# Altium schematic symbol library Power Management DC-DC Conversion.SchLib: 186 symbols (part 3 of 4)
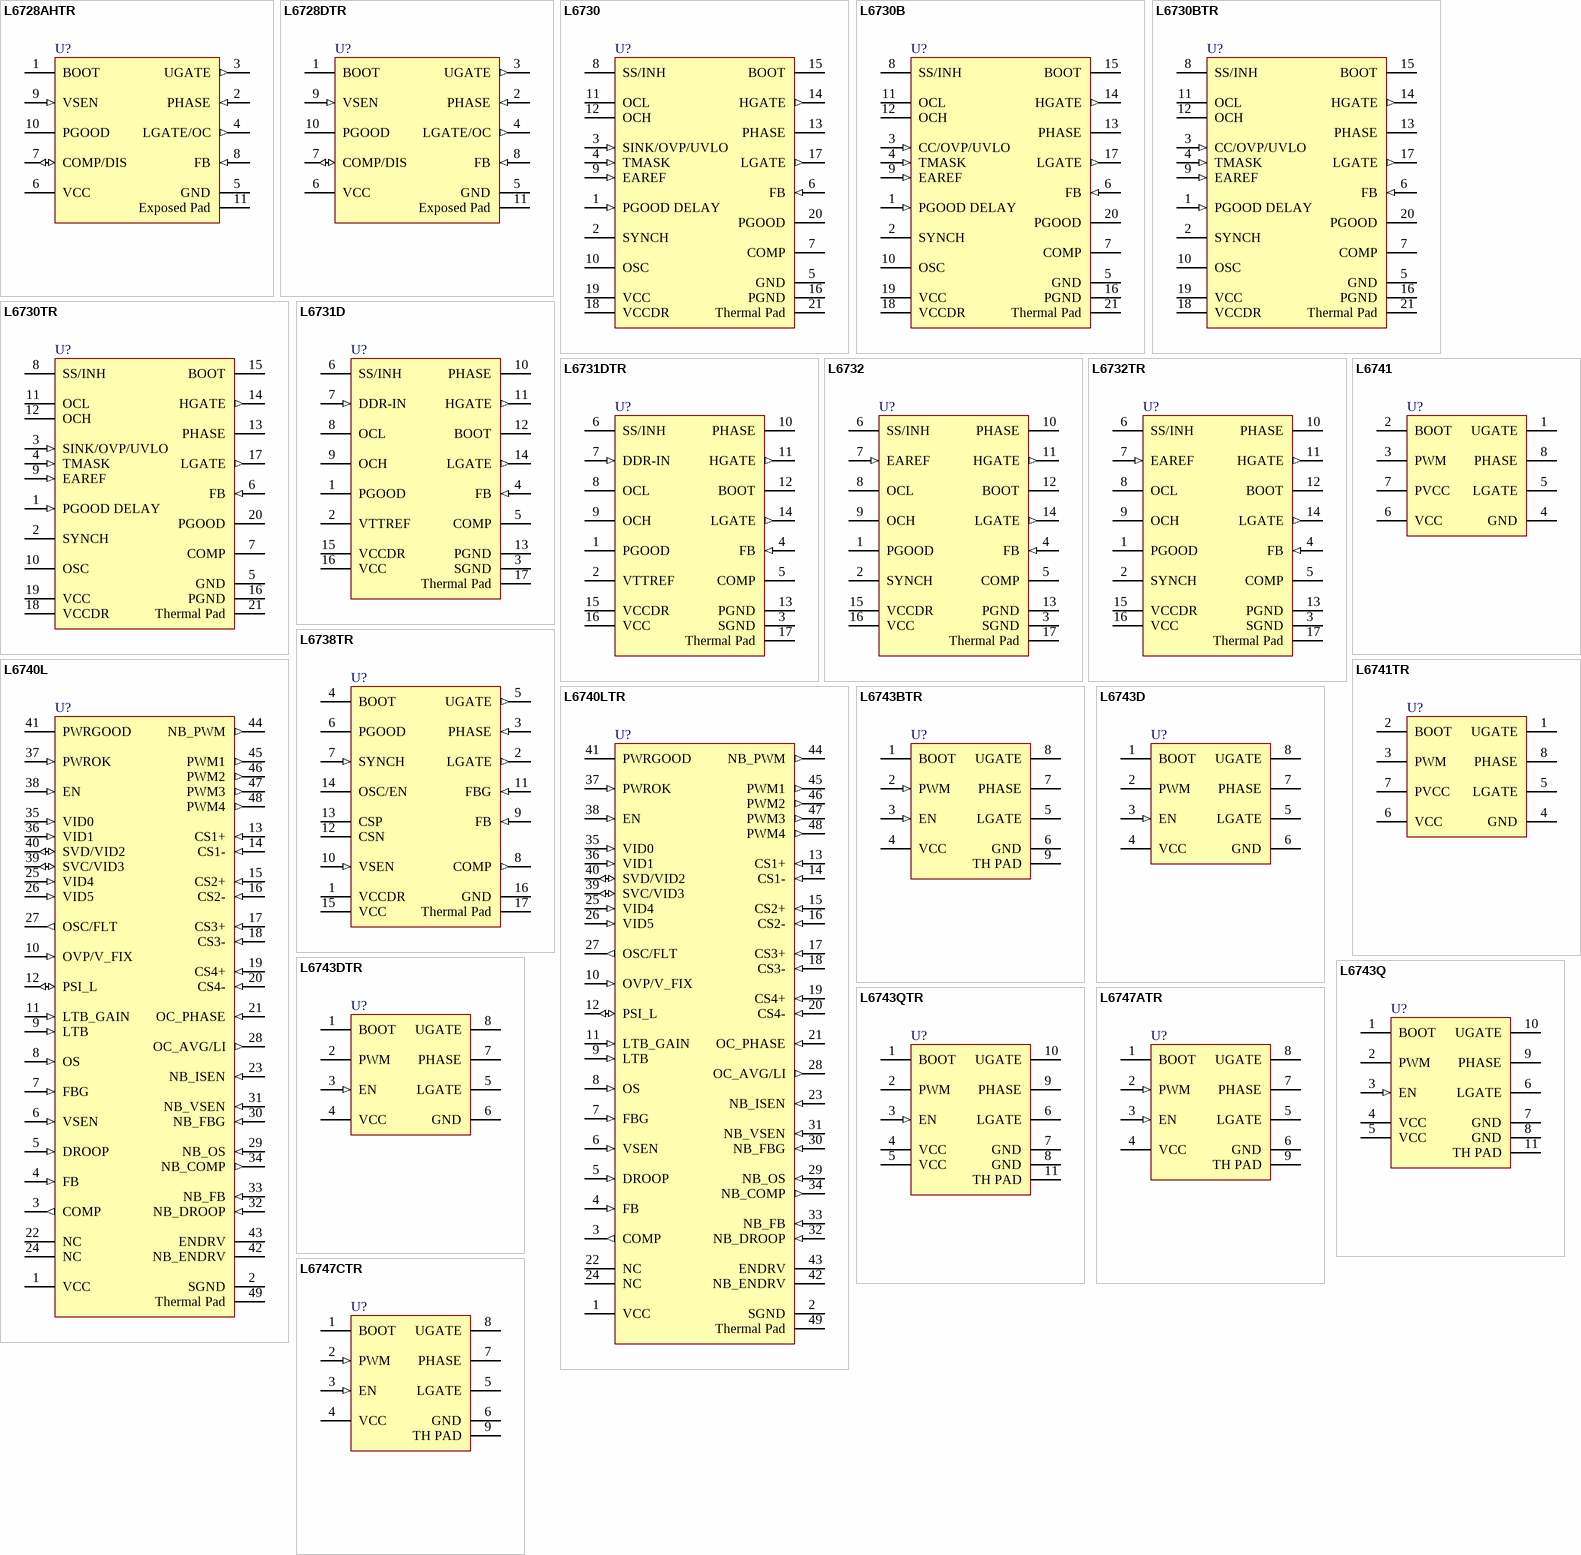
[diagram p9: symbols L6728AHTR to L6747CTR]

## L6747CTR
designator U?
High current MOSFET driver, 8-Pin VFDFPN, Tape and Reel; DatasheetVersion: Apr-2010; PackageVersion: 2008; PackageReference: VFDFPN8; PackageDescription: 8-Pin VFDFPN, 3 x 3 x 1 mm Body, 0.5 mm Pitch, Exposed Pad; ComponentLink1Description: Manufacturer URL; ComponentLink1URL: http://www.st.com; ComponentLink2Description: Datasheet; ComponentLink2URL: http://www.st.com/internet/com/TECHNICAL_RESOURCES/TECHNICAL_LITERATURE/DATASHEET/CD00265205.pdf
footprint VFDFPN8_N (SON, 8-Leads, Body 3x3mm, Pitch 0.5mm, Thermal Pad 2.45x1.6mm, IPC Medium Density)
footprint VFDFPN8_L (SON, 8-Leads, Body 3x3mm, Pitch 0.5mm, Thermal Pad 2.45x1.6mm, IPC High Density)
footprint VFDFPN8_M (SON, 8-Leads, Body 3x3mm, Pitch 0.5mm, Thermal Pad 2.45x1.6mm, IPC Low Density)
pins: 1 BOOT (power), 2 PWM (in), 3 EN (in), 4 VCC (power), 5 LGATE (hiz), 6 GND (power), 7 PHASE, 8 UGATE (hiz), 9 TH PAD (power)

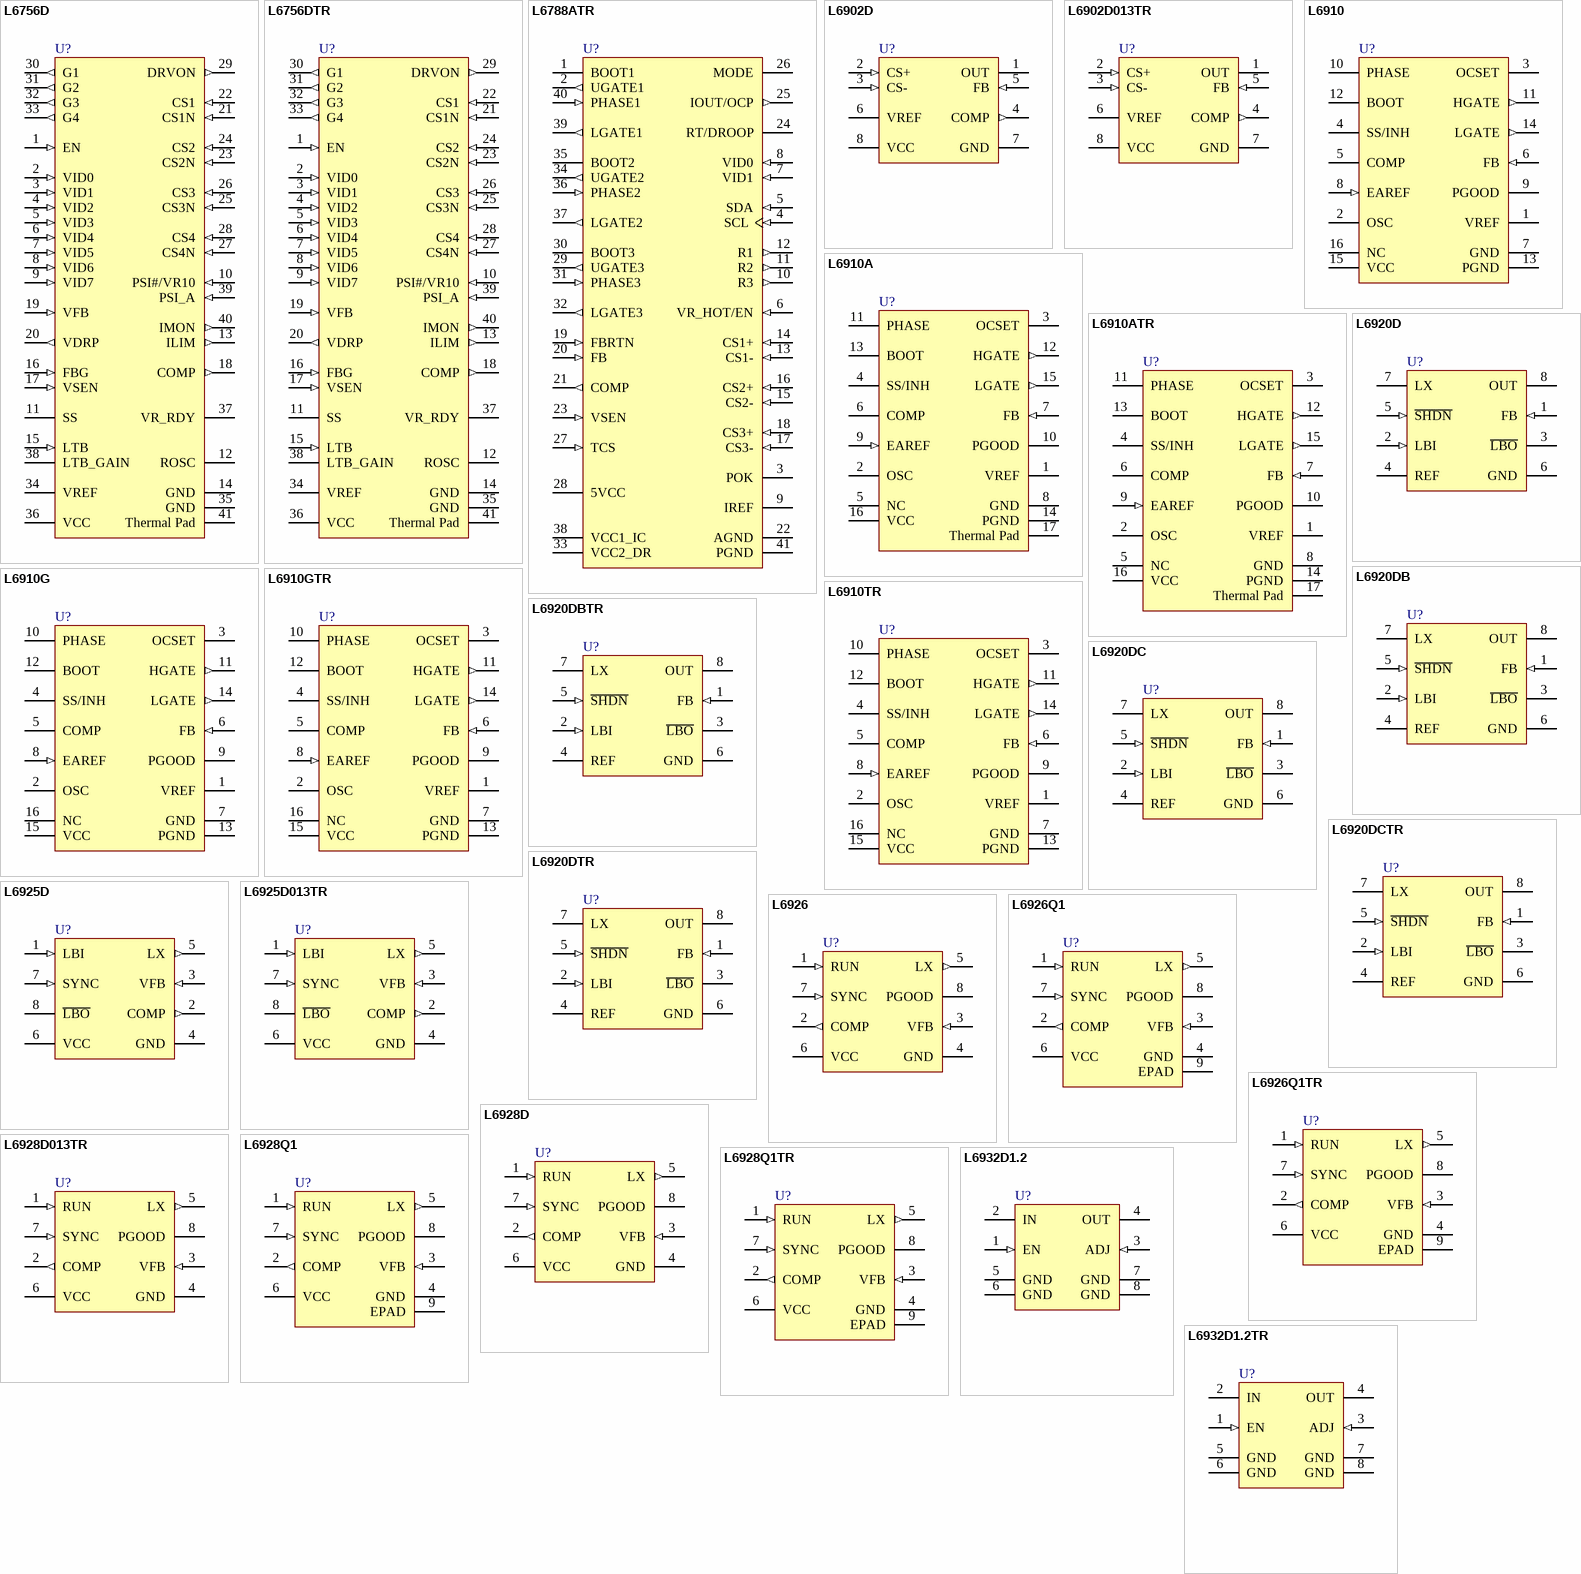
[diagram p4: symbols L6756D to L6932D1.2TR]

## L6756D
designator U?
2/3/4 phase buck controller for VR10, VR11.1 and AM2 processor applications, 40-Pin VFQFPN, Tube; DatasheetVersion: Oct-2008; PackageVersion: 2008; PackageReference: VFQFPN-40; PackageDescription: 40-Pin Very Fine Quad Flat Package No-Lead, 6 x 6 x 1 mm Body, 0.5 mm Pitch, Exposed Pad; ComponentLink1Description: Manufacturer URL; ComponentLink1URL: http://www.st.com; ComponentLink2Description: Datasheet; ComponentLink2URL: http://www.st.com/internet/com/TECHNICAL_RESOURCES/TECHNICAL_LITERATURE/DATASHEET/CD00211387.pdf
footprint VFQFPN-40_N (QFN, 40-Leads, Body 6x6mm, Pitch 0.5mm, Thermal Pad 4.1x4.1mm, IPC Medium Density)
footprint VFQFPN-40_L (QFN, 40-Leads, Body 6x6mm, Pitch 0.5mm, Thermal Pad 4.1x4.1mm, IPC High Density)
footprint VFQFPN-40_M (QFN, 40-Leads, Body 6x6mm, Pitch 0.5mm, Thermal Pad 4.1x4.1mm, IPC Low Density)
pins: 1 EN (in), 2 VID0 (in), 3 VID1 (in), 4 VID2 (in), 5 VID3 (in), 6 VID4 (in), 7 VID5 (in), 8 VID6 (in), 9 VID7 (in), 10 PSI#/VR10 (in), 11 SS, 12 ROSC, 13 ILIM (out), 14 GND (power), 15 LTB (in), 16 FBG (in), 17 VSEN (in), 18 COMP (out), 19 VFB (in), 20 VDRP (out), 21 CS1N (in), 22 CS1 (in), 23 CS2N (in), 24 CS2 (in), 25 CS3N (in), 26 CS3 (in), 27 CS4N (in), 28 CS4 (in), 29 DRVON (out), 30 G1 (out), 31 G2 (out), 32 G3 (out), 33 G4 (out), 34 VREF (power), 35 GND (power), 36 VCC (power), 37 VR_RDY (oc), 38 LTB_GAIN, 39 PSI_A (in), 40 IMON (out), 41 Thermal Pad (power)

## L6756DTR
designator U?
2/3/4 phase buck controller for VR10, VR11.1 and AM2 processor applications, 40-Pin VFQFPN, Tape and Reel; DatasheetVersion: Oct-2008; PackageVersion: 2008; PackageReference: VFQFPN-40; PackageDescription: 40-Pin Very Fine Quad Flat Package No-Lead, 6 x 6 x 1 mm Body, 0.5 mm Pitch, Exposed Pad; ComponentLink1Description: Manufacturer URL; ComponentLink1URL: http://www.st.com; ComponentLink2Description: Datasheet; ComponentLink2URL: http://www.st.com/internet/com/TECHNICAL_RESOURCES/TECHNICAL_LITERATURE/DATASHEET/CD00211387.pdf
footprint VFQFPN-40_N (QFN, 40-Leads, Body 6x6mm, Pitch 0.5mm, Thermal Pad 4.1x4.1mm, IPC Medium Density)
footprint VFQFPN-40_L (QFN, 40-Leads, Body 6x6mm, Pitch 0.5mm, Thermal Pad 4.1x4.1mm, IPC High Density)
footprint VFQFPN-40_M (QFN, 40-Leads, Body 6x6mm, Pitch 0.5mm, Thermal Pad 4.1x4.1mm, IPC Low Density)
pins: 1 EN (in), 2 VID0 (in), 3 VID1 (in), 4 VID2 (in), 5 VID3 (in), 6 VID4 (in), 7 VID5 (in), 8 VID6 (in), 9 VID7 (in), 10 PSI#/VR10 (in), 11 SS, 12 ROSC, 13 ILIM (out), 14 GND (power), 15 LTB (in), 16 FBG (in), 17 VSEN (in), 18 COMP (out), 19 VFB (in), 20 VDRP (out), 21 CS1N (in), 22 CS1 (in), 23 CS2N (in), 24 CS2 (in), 25 CS3N (in), 26 CS3 (in), 27 CS4N (in), 28 CS4 (in), 29 DRVON (out), 30 G1 (out), 31 G2 (out), 32 G3 (out), 33 G4 (out), 34 VREF (power), 35 GND (power), 36 VCC (power), 37 VR_RDY (oc), 38 LTB_GAIN, 39 PSI_A (in), 40 IMON (out), 41 Thermal Pad (power)

## L6788ATR
designator U?
3-phase controller with embedded drivers for the next GPU generation, 40-Pin VPQFN, Tape and Reel; DatasheetVersion: Jul-2009; PackageVersion: 2008; PackageReference: VFQFPN-40; PackageDescription: 40-Pin Very Fine Quad Flat Package No-Lead, 6 x 6 x 1 mm Body, 0.5 mm Pitch, Exposed Pad; ComponentLink1Description: Manufacturer URL; ComponentLink1URL: http://www.st.com; ComponentLink2Description: Datasheet; ComponentLink2URL: http://www.st.com/internet/com/TECHNICAL_RESOURCES/TECHNICAL_LITERATURE/DATASHEET/CD00223686.pdf
footprint VFQFPN-40_N (QFN, 40-Leads, Body 6x6mm, Pitch 0.5mm, Thermal Pad 4.1x4.1mm, IPC Medium Density)
footprint VFQFPN-40_L (QFN, 40-Leads, Body 6x6mm, Pitch 0.5mm, Thermal Pad 4.1x4.1mm, IPC High Density)
footprint VFQFPN-40_M (QFN, 40-Leads, Body 6x6mm, Pitch 0.5mm, Thermal Pad 4.1x4.1mm, IPC Low Density)
pins: 1 BOOT1 (power), 2 UGATE1 (out), 3 POK (oc), 4 SCL (in), 5 SDA (in), 6 VR_HOT/EN (in), 7 VID1 (in), 8 VID0 (in), 9 IREF, 10 R3 (out), 11 R2 (out), 12 R1 (out), 13 CS1- (in), 14 CS1+ (in), 15 CS2- (in), 16 CS2+ (in), 17 CS3- (in), 18 CS3+ (in), 19 FBRTN (in), 20 FB (in), 21 COMP (out), 22 AGND (power), 23 VSEN (in), 24 RT/DROOP, 25 IOUT/OCP (out), 26 MODE, 27 TCS (in), 28 5VCC (power), 29 UGATE3 (out), 30 BOOT3 (power), 31 PHASE3 (in), 32 LGATE3 (out), 33 VCC2_DR (power), 34 UGATE2 (out), 35 BOOT2 (power), 36 PHASE2 (in), 37 LGATE2 (out), 38 VCC1_IC (power), 39 LGATE1 (out), 40 PHASE1 (in), 41 PGND (power)

## L6902D
designator U?
1A, switching regulator with adjustable current limit, 8-Pin SO, Tube; DatasheetVersion: Nov-2010; PackageVersion: Dec-2002; PackageReference: SO8; PackageDescription: 8-Pin Small Outline Integrated Circuit 1.27 mm Pitch; Code_JEDEC: MS-012-AA; Code_IPC: SOIC127P600-8; ComponentLink1Description: Manufacturer URL; ComponentLink1URL: http://www.st.com; ComponentLink2Description: Datasheet; ComponentLink2URL: http://www.st.com/internet/com/TECHNICAL_RESOURCES/TECHNICAL_LITERATURE/DATASHEET/CD00002179.pdf; ComponentLink3Description: Package Specification; ComponentLink3URL: http://www.st.com/internet/com/TECHNICAL_RESOURCES/TECHNICAL_LITERATURE/PACKAGE_INFORMATION/CD00004680.pdf
footprint SO8_N (SOIC, 8-Leads, Body 4.9x3.9mm, Pitch 1.27mm, IPC Medium Density)
footprint SO8_L (SOIC, 8-Leads, Body 4.9x3.9mm, Pitch 1.27mm, IPC High Density)
footprint SO8_M (SOIC, 8-Leads, Body 4.9x3.9mm, Pitch 1.27mm, IPC Low Density)
pins: 1 OUT (power), 2 CS+ (in), 3 CS- (in), 4 COMP (out), 5 FB (in), 6 VREF (power), 7 GND (power), 8 VCC (power)

## L6902D013TR
designator U?
1A, switching regulator with adjustable current limit, 8-Pin SO, Tape and Reel; DatasheetVersion: Nov-2010; PackageVersion: Dec-2002; PackageReference: SO8; PackageDescription: 8-Pin Small Outline Integrated Circuit 1.27 mm Pitch; Code_JEDEC: MS-012-AA; Code_IPC: SOIC127P600-8; ComponentLink1Description: Manufacturer URL; ComponentLink1URL: http://www.st.com; ComponentLink2Description: Datasheet; ComponentLink2URL: http://www.st.com/internet/com/TECHNICAL_RESOURCES/TECHNICAL_LITERATURE/DATASHEET/CD00002179.pdf; ComponentLink3Description: Package Specification; ComponentLink3URL: http://www.st.com/internet/com/TECHNICAL_RESOURCES/TECHNICAL_LITERATURE/PACKAGE_INFORMATION/CD00004680.pdf
footprint SO8_N (SOIC, 8-Leads, Body 4.9x3.9mm, Pitch 1.27mm, IPC Medium Density)
footprint SO8_L (SOIC, 8-Leads, Body 4.9x3.9mm, Pitch 1.27mm, IPC High Density)
footprint SO8_M (SOIC, 8-Leads, Body 4.9x3.9mm, Pitch 1.27mm, IPC Low Density)
pins: 1 OUT (power), 2 CS+ (in), 3 CS- (in), 4 COMP (out), 5 FB (in), 6 VREF (power), 7 GND (power), 8 VCC (power)

## L6910
designator U?
1.3A, Adjustable step-down controller with synchronous rectification, 16-Pin SO; DatasheetVersion: May-2005; PackageVersion: ver2.0, 2003; PackageReference: SO16; PackageDescription: 16-Pin Small Outline Integrated Circuit 1.27 mm Pitch; Code_IPC: SOIC127P600-16; ComponentLink1Description: Manufacturer URL; ComponentLink1URL: http://www.st.com; ComponentLink2Description: Datasheet; ComponentLink2URL: http://www.st.com/internet/com/TECHNICAL_RESOURCES/TECHNICAL_LITERATURE/DATASHEET/CD00002524.pdf; ComponentLink3Description: Package Specification; ComponentLink3URL: http://www.st.com/internet/com/TECHNICAL_RESOURCES/TECHNICAL_LITERATURE/PACKAGE_INFORMATION/CD00004640.pdf
footprint SO16_N (SOIC, 16-Leads, Body 9.9x3.9mm, Pitch 1.27mm, IPC Medium Density)
footprint SO16_L (SOIC, 16-Leads, Body 9.9x3.9mm, Pitch 1.27mm, IPC High Density)
footprint SO16_M (SOIC, 16-Leads, Body 9.9x3.9mm, Pitch 1.27mm, IPC Low Density)
pins: 1 VREF (power), 2 OSC, 3 OCSET, 4 SS/INH, 5 COMP, 6 FB (in), 7 GND (power), 8 EAREF (in), 9 PGOOD (oc), 10 PHASE, 11 HGATE (out), 12 BOOT, 13 PGND (power), 14 LGATE (out), 15 VCC (power), 16 NC

## L6910A
designator U?
1.3A, Adjustable step-down controller with synchronous rectification, 16-Pin HTSSOP; DatasheetVersion: May-2005; PackageVersion: 2008; PackageReference: HTSSOP16; PackageDescription: 16-Pin Thin Small Outline Package 5 x 4.4 mm Body ,0.65 mm Pitch, 3 x 3 mm Exposed Pad; ComponentLink1Description: Manufacturer URL; ComponentLink1URL: http://www.st.com; ComponentLink2Description: Datasheet; ComponentLink2URL: http://www.st.com/internet/com/TECHNICAL_RESOURCES/TECHNICAL_LITERATURE/DATASHEET/CD00002524.pdf
footprint HTSSOP16_N (TSOP, 16-Leads, Body 5x4.4mm, Pitch 0.65mm, Thermal Pad 3x3mm, IPC Medium Density)
footprint HTSSOP16_L (TSOP, 16-Leads, Body 5x4.4mm, Pitch 0.65mm, Thermal Pad 3x3mm, IPC High Density)
footprint HTSSOP16_M (TSOP, 16-Leads, Body 5x4.4mm, Pitch 0.65mm, Thermal Pad 3x3mm, IPC Low Density)
pins: 1 VREF (power), 2 OSC, 3 OCSET, 4 SS/INH, 5 NC, 6 COMP, 7 FB (in), 8 GND (power), 9 EAREF (in), 10 PGOOD (oc), 11 PHASE, 12 HGATE (out), 13 BOOT, 14 PGND (power), 15 LGATE (out), 16 VCC (power), 17 Thermal Pad

## L6910ATR
designator U?
1.3A, Adjustable step-down controller with synchronous rectification, 16-Pin HTSSOP, Tape and Reel; DatasheetVersion: May-2005; PackageVersion: 2008; PackageReference: HTSSOP16; PackageDescription: 16-Pin Thin Small Outline Package 5 x 4.4 mm Body ,0.65 mm Pitch, 3 x 3 mm Exposed Pad; ComponentLink1Description: Manufacturer URL; ComponentLink1URL: http://www.st.com; ComponentLink2Description: Datasheet; ComponentLink2URL: http://www.st.com/internet/com/TECHNICAL_RESOURCES/TECHNICAL_LITERATURE/DATASHEET/CD00002524.pdf
footprint HTSSOP16_N (TSOP, 16-Leads, Body 5x4.4mm, Pitch 0.65mm, Thermal Pad 3x3mm, IPC Medium Density)
footprint HTSSOP16_L (TSOP, 16-Leads, Body 5x4.4mm, Pitch 0.65mm, Thermal Pad 3x3mm, IPC High Density)
footprint HTSSOP16_M (TSOP, 16-Leads, Body 5x4.4mm, Pitch 0.65mm, Thermal Pad 3x3mm, IPC Low Density)
pins: 1 VREF (power), 2 OSC, 3 OCSET, 4 SS/INH, 5 NC, 6 COMP, 7 FB (in), 8 GND (power), 9 EAREF (in), 10 PGOOD (oc), 11 PHASE, 12 HGATE (out), 13 BOOT, 14 PGND (power), 15 LGATE (out), 16 VCC (power), 17 Thermal Pad

## L6910G
designator U?
1.3A, Adjustable step-down controller with synchronous rectification, 16-Pin SO; DatasheetVersion: May-2005; PackageVersion: ver2.0, 2003; PackageReference: SO16; PackageDescription: 16-Pin Small Outline Integrated Circuit 1.27 mm Pitch; Code_IPC: SOIC127P600-16; ComponentLink1Description: Manufacturer URL; ComponentLink1URL: http://www.st.com; ComponentLink2Description: Datasheet; ComponentLink2URL: http://www.st.com/internet/com/TECHNICAL_RESOURCES/TECHNICAL_LITERATURE/DATASHEET/CD00055650.pdf; ComponentLink3Description: Package Specification; ComponentLink3URL: http://www.st.com/internet/com/TECHNICAL_RESOURCES/TECHNICAL_LITERATURE/PACKAGE_INFORMATION/CD00004640.pdf
footprint SO16_N (SOIC, 16-Leads, Body 9.9x3.9mm, Pitch 1.27mm, IPC Medium Density)
footprint SO16_L (SOIC, 16-Leads, Body 9.9x3.9mm, Pitch 1.27mm, IPC High Density)
footprint SO16_M (SOIC, 16-Leads, Body 9.9x3.9mm, Pitch 1.27mm, IPC Low Density)
pins: 1 VREF (power), 2 OSC, 3 OCSET, 4 SS/INH, 5 COMP, 6 FB (in), 7 GND (power), 8 EAREF (in), 9 PGOOD (oc), 10 PHASE, 11 HGATE (out), 12 BOOT, 13 PGND (power), 14 LGATE (out), 15 VCC (power), 16 NC

## L6910GTR
designator U?
1.3A, Adjustable step-down controller with synchronous rectification, 16-Pin SO, Tape and Reel; DatasheetVersion: May-2005; PackageVersion: ver2.0, 2003; PackageReference: SO16; PackageDescription: 16-Pin Small Outline Integrated Circuit 1.27 mm Pitch; Code_IPC: SOIC127P600-16; ComponentLink1Description: Manufacturer URL; ComponentLink1URL: http://www.st.com; ComponentLink2Description: Datasheet; ComponentLink2URL: http://www.st.com/internet/com/TECHNICAL_RESOURCES/TECHNICAL_LITERATURE/DATASHEET/CD00055650.pdf; ComponentLink3Description: Package Specification; ComponentLink3URL: http://www.st.com/internet/com/TECHNICAL_RESOURCES/TECHNICAL_LITERATURE/PACKAGE_INFORMATION/CD00004640.pdf
footprint SO16_N (SOIC, 16-Leads, Body 9.9x3.9mm, Pitch 1.27mm, IPC Medium Density)
footprint SO16_L (SOIC, 16-Leads, Body 9.9x3.9mm, Pitch 1.27mm, IPC High Density)
footprint SO16_M (SOIC, 16-Leads, Body 9.9x3.9mm, Pitch 1.27mm, IPC Low Density)
pins: 1 VREF (power), 2 OSC, 3 OCSET, 4 SS/INH, 5 COMP, 6 FB (in), 7 GND (power), 8 EAREF (in), 9 PGOOD (oc), 10 PHASE, 11 HGATE (out), 12 BOOT, 13 PGND (power), 14 LGATE (out), 15 VCC (power), 16 NC

## L6910TR
designator U?
1.3A, Adjustable step-down controller with synchronous rectification, 16-Pin SO, Tape and Reel; DatasheetVersion: May-2005; PackageVersion: ver2.0, 2003; PackageReference: SO16; PackageDescription: 16-Pin Small Outline Integrated Circuit 1.27 mm Pitch; Code_IPC: SOIC127P600-16; ComponentLink1Description: Manufacturer URL; ComponentLink1URL: http://www.st.com; ComponentLink2Description: Datasheet; ComponentLink2URL: http://www.st.com/internet/com/TECHNICAL_RESOURCES/TECHNICAL_LITERATURE/DATASHEET/CD00002524.pdf; ComponentLink3Description: Package Specification; ComponentLink3URL: http://www.st.com/internet/com/TECHNICAL_RESOURCES/TECHNICAL_LITERATURE/PACKAGE_INFORMATION/CD00004640.pdf
footprint SO16_N (SOIC, 16-Leads, Body 9.9x3.9mm, Pitch 1.27mm, IPC Medium Density)
footprint SO16_L (SOIC, 16-Leads, Body 9.9x3.9mm, Pitch 1.27mm, IPC High Density)
footprint SO16_M (SOIC, 16-Leads, Body 9.9x3.9mm, Pitch 1.27mm, IPC Low Density)
pins: 1 VREF (power), 2 OSC, 3 OCSET, 4 SS/INH, 5 COMP, 6 FB (in), 7 GND (power), 8 EAREF (in), 9 PGOOD (oc), 10 PHASE, 11 HGATE (out), 12 BOOT, 13 PGND (power), 14 LGATE (out), 15 VCC (power), 16 NC

## L6920D
designator U?
1V, High efficiency syncronous step up converter, 8-Pin TSSOP; DatasheetVersion: Feb-2005; PackageVersion: 2005; PackageReference: TSSOP8; PackageDescription: 8-Pin Thin Small Outline Package 3 x 4.4 mm Body ,0.65 mm Pitch; Code_JEDEC: MO-153-AA; ComponentLink1Description: Manufacturer URL; ComponentLink1URL: http://www.st.com; ComponentLink2Description: Datasheet; ComponentLink2URL: http://www.st.com/internet/com/TECHNICAL_RESOURCES/TECHNICAL_LITERATURE/DATASHEET/CD00002171.pdf
footprint TSSOP8_N (TSOP, 8-Leads, Body 3x4.4mm, Pitch 0.65mm, IPC Medium Density)
footprint TSSOP8_L (TSOP, 8-Leads, Body 3x4.4mm, Pitch 0.65mm, IPC High Density)
footprint TSSOP8_M (TSOP, 8-Leads, Body 3x4.4mm, Pitch 0.65mm, IPC Low Density)
pins: 1 FB (in), 2 LBI (in), 3 ~{LBO} (oc), 4 REF (power), 5 ~{SHDN} (in), 6 GND (power), 7 LX, 8 OUT (power)

## L6920DB
designator U?
Synchronous rectifier step up converter, 8-Pin MSOP; DatasheetVersion: Oct-2006; PackageVersion: 2011; PackageReference: MSOP8; PackageDescription: 8-Pin Thin Small Outline Package 3 x 3 mm Body ,0.65 mm Pitch; ComponentLink1Description: Manufacturer URL; ComponentLink1URL: http://www.st.com; ComponentLink2Description: Datasheet; ComponentLink2URL: http://www.st.com/internet/com/TECHNICAL_RESOURCES/TECHNICAL_LITERATURE/DATASHEET/CD00055960.pdf
footprint MSOP8_N (TSOP, 8-Leads, Body 3x3mm, Pitch 0.65mm, IPC Medium Density)
footprint MSOP8_L (TSOP, 8-Leads, Body 3x3mm, Pitch 0.65mm, IPC High Density)
footprint MSOP8_M (TSOP, 8-Leads, Body 3x3mm, Pitch 0.65mm, IPC Low Density)
pins: 1 FB (in), 2 LBI (in), 3 ~{LBO} (oc), 4 REF (power), 5 ~{SHDN} (in), 6 GND (power), 7 LX, 8 OUT (power)

## L6920DBTR
designator U?
Synchronous rectifier step up converter, 8-Pin MSOP, Tape and Reel; DatasheetVersion: Oct-2006; PackageVersion: 2011; PackageReference: MSOP8; PackageDescription: 8-Pin Thin Small Outline Package 3 x 3 mm Body ,0.65 mm Pitch; ComponentLink1Description: Manufacturer URL; ComponentLink1URL: http://www.st.com; ComponentLink2Description: Datasheet; ComponentLink2URL: http://www.st.com/internet/com/TECHNICAL_RESOURCES/TECHNICAL_LITERATURE/DATASHEET/CD00055960.pdf
footprint MSOP8_N (TSOP, 8-Leads, Body 3x3mm, Pitch 0.65mm, IPC Medium Density)
footprint MSOP8_L (TSOP, 8-Leads, Body 3x3mm, Pitch 0.65mm, IPC High Density)
footprint MSOP8_M (TSOP, 8-Leads, Body 3x3mm, Pitch 0.65mm, IPC Low Density)
pins: 1 FB (in), 2 LBI (in), 3 ~{LBO} (oc), 4 REF (power), 5 ~{SHDN} (in), 6 GND (power), 7 LX, 8 OUT (power)

## L6920DC
designator U?
Synchronous rectifier step up converter, 8-Pin MSOP, Tube; DatasheetVersion: Jun-2006; PackageVersion: 2011; PackageReference: MSOP8; PackageDescription: 8-Pin Thin Small Outline Package 3 x 3 mm Body ,0.65 mm Pitch; ComponentLink1Description: Manufacturer URL; ComponentLink1URL: http://www.st.com; ComponentLink2Description: Datasheet; ComponentLink2URL: http://www.st.com/internet/com/TECHNICAL_RESOURCES/TECHNICAL_LITERATURE/DATASHEET/CD00120294.pdf
footprint MSOP8_N (TSOP, 8-Leads, Body 3x3mm, Pitch 0.65mm, IPC Medium Density)
footprint MSOP8_L (TSOP, 8-Leads, Body 3x3mm, Pitch 0.65mm, IPC High Density)
footprint MSOP8_M (TSOP, 8-Leads, Body 3x3mm, Pitch 0.65mm, IPC Low Density)
pins: 1 FB (in), 2 LBI (in), 3 ~{LBO} (oc), 4 REF (power), 5 ~{SHDN} (in), 6 GND (power), 7 LX, 8 OUT (power)

## L6920DCTR
designator U?
Synchronous rectifier step up converter, 8-Pin MSOP, Tape and Reel; DatasheetVersion: Jun-2006; PackageVersion: 2011; PackageReference: MSOP8; PackageDescription: 8-Pin Thin Small Outline Package 3 x 3 mm Body ,0.65 mm Pitch; ComponentLink1Description: Manufacturer URL; ComponentLink1URL: http://www.st.com; ComponentLink2Description: Datasheet; ComponentLink2URL: http://www.st.com/internet/com/TECHNICAL_RESOURCES/TECHNICAL_LITERATURE/DATASHEET/CD00120294.pdf
footprint MSOP8_N (TSOP, 8-Leads, Body 3x3mm, Pitch 0.65mm, IPC Medium Density)
footprint MSOP8_L (TSOP, 8-Leads, Body 3x3mm, Pitch 0.65mm, IPC High Density)
footprint MSOP8_M (TSOP, 8-Leads, Body 3x3mm, Pitch 0.65mm, IPC Low Density)
pins: 1 FB (in), 2 LBI (in), 3 ~{LBO} (oc), 4 REF (power), 5 ~{SHDN} (in), 6 GND (power), 7 LX, 8 OUT (power)

## L6920DTR
designator U?
1V, High efficiency syncronous step up converter, 8-Pin TSSOP, Tape and Reel; DatasheetVersion: Feb-2005; PackageVersion: 2005; PackageReference: TSSOP8; PackageDescription: 8-Pin Thin Small Outline Package 3 x 4.4 mm Body ,0.65 mm Pitch; Code_JEDEC: MO-153-AA; ComponentLink1Description: Manufacturer URL; ComponentLink1URL: http://www.st.com; ComponentLink2Description: Datasheet; ComponentLink2URL: http://www.st.com/internet/com/TECHNICAL_RESOURCES/TECHNICAL_LITERATURE/DATASHEET/CD00002171.pdf
footprint TSSOP8_N (TSOP, 8-Leads, Body 3x4.4mm, Pitch 0.65mm, IPC Medium Density)
footprint TSSOP8_L (TSOP, 8-Leads, Body 3x4.4mm, Pitch 0.65mm, IPC High Density)
footprint TSSOP8_M (TSOP, 8-Leads, Body 3x4.4mm, Pitch 0.65mm, IPC Low Density)
pins: 1 FB (in), 2 LBI (in), 3 ~{LBO} (oc), 4 REF (power), 5 ~{SHDN} (in), 6 GND (power), 7 LX, 8 OUT (power)

## L6925D
designator U?
High-efficiency monolithic synchronous step-down regulator, 8-Pin MSOP; DatasheetVersion: Sep-2004; PackageVersion: 2011; PackageReference: MSOP8; PackageDescription: 8-Pin Thin Small Outline Package 3 x 3 mm Body ,0.65 mm Pitch; ComponentLink1Description: Manufacturer URL; ComponentLink1URL: http://www.st.com; ComponentLink2Description: Datasheet; ComponentLink2URL: http://www.st.com/internet/com/TECHNICAL_RESOURCES/TECHNICAL_LITERATURE/DATASHEET/CD00003236.pdf
footprint MSOP8_N (TSOP, 8-Leads, Body 3x3mm, Pitch 0.65mm, IPC Medium Density)
footprint MSOP8_L (TSOP, 8-Leads, Body 3x3mm, Pitch 0.65mm, IPC High Density)
footprint MSOP8_M (TSOP, 8-Leads, Body 3x3mm, Pitch 0.65mm, IPC Low Density)
pins: 1 LBI (in), 2 COMP (out), 3 VFB (in), 4 GND (power), 5 LX (out), 6 VCC (power), 7 SYNC (in), 8 ~{LBO} (oc)

## L6925D013TR
designator U?
High-efficiency monolithic synchronous step-down regulator, 8-Pin MSOP, Tape and Reel; DatasheetVersion: Sep-2004; PackageVersion: 2011; PackageReference: MSOP8; PackageDescription: 8-Pin Thin Small Outline Package 3 x 3 mm Body ,0.65 mm Pitch; ComponentLink1Description: Manufacturer URL; ComponentLink1URL: http://www.st.com; ComponentLink2Description: Datasheet; ComponentLink2URL: http://www.st.com/internet/com/TECHNICAL_RESOURCES/TECHNICAL_LITERATURE/DATASHEET/CD00003236.pdf
footprint MSOP8_N (TSOP, 8-Leads, Body 3x3mm, Pitch 0.65mm, IPC Medium Density)
footprint MSOP8_L (TSOP, 8-Leads, Body 3x3mm, Pitch 0.65mm, IPC High Density)
footprint MSOP8_M (TSOP, 8-Leads, Body 3x3mm, Pitch 0.65mm, IPC Low Density)
pins: 1 LBI (in), 2 COMP (out), 3 VFB (in), 4 GND (power), 5 LX (out), 6 VCC (power), 7 SYNC (in), 8 ~{LBO} (oc)

## L6926
designator U?
High-efficiency monolithic synchronous step-down regulator, 8-Pin MSOP; DatasheetVersion: Apr-2011; PackageVersion: 2011; PackageReference: MSOP8; PackageDescription: 8-Pin Thin Small Outline Package 3 x 3 mm Body ,0.65 mm Pitch; ComponentLink1Description: Manufacturer URL; ComponentLink1URL: http://www.st.com; ComponentLink2Description: Datasheet; ComponentLink2URL: http://www.st.com/internet/com/TECHNICAL_RESOURCES/TECHNICAL_LITERATURE/DATASHEET/CD00003237.pdf
footprint MSOP8_N (TSOP, 8-Leads, Body 3x3mm, Pitch 0.65mm, IPC Medium Density)
footprint MSOP8_L (TSOP, 8-Leads, Body 3x3mm, Pitch 0.65mm, IPC High Density)
footprint MSOP8_M (TSOP, 8-Leads, Body 3x3mm, Pitch 0.65mm, IPC Low Density)
pins: 1 RUN (in), 2 COMP (out), 3 VFB (in), 4 GND (power), 5 LX (out), 6 VCC (power), 7 SYNC (in), 8 PGOOD (oc)

## L6926Q1
designator U?
High-efficiency monolithic synchronous step-down regulator, 8-Pin VFQFPN; DatasheetVersion: Apr-2011; PackageVersion: 2009; PackageReference: VFQFPN8; PackageDescription: 8-Pin VFQFPN, 3 x 3 x 1.08 mm Body, 0.5 mm Pitch, Exposed Pad; ComponentLink1Description: Manufacturer URL; ComponentLink1URL: http://www.st.com; ComponentLink2Description: Datasheet; ComponentLink2URL: http://www.st.com/internet/com/TECHNICAL_RESOURCES/TECHNICAL_LITERATURE/DATASHEET/CD00003237.pdf
footprint VFQFPN8_N (SON, 8-Leads, Body 3x3mm, Pitch 0.5mm, Thermal Pad 2.35x1.6mm, IPC Medium Density)
footprint VFQFPN8_L (SON, 8-Leads, Body 3x3mm, Pitch 0.5mm, Thermal Pad 2.35x1.6mm, IPC High Density)
footprint VFQFPN8_M (SON, 8-Leads, Body 3x3mm, Pitch 0.5mm, Thermal Pad 2.35x1.6mm, IPC Low Density)
pins: 1 RUN (in), 2 COMP (out), 3 VFB (in), 4 GND (power), 5 LX (out), 6 VCC (power), 7 SYNC (in), 8 PGOOD (oc), 9 EPAD (power)

## L6926Q1TR
designator U?
High-efficiency monolithic synchronous step-down regulator, 8-Pin VFQFPN, Tape and Reel; DatasheetVersion: Apr-2011; PackageVersion: 2009; PackageReference: VFQFPN8; PackageDescription: 8-Pin VFQFPN, 3 x 3 x 1.08 mm Body, 0.5 mm Pitch, Exposed Pad; ComponentLink1Description: Manufacturer URL; ComponentLink1URL: http://www.st.com; ComponentLink2Description: Datasheet; ComponentLink2URL: http://www.st.com/internet/com/TECHNICAL_RESOURCES/TECHNICAL_LITERATURE/DATASHEET/CD00003237.pdf
footprint VFQFPN8_N (SON, 8-Leads, Body 3x3mm, Pitch 0.5mm, Thermal Pad 2.35x1.6mm, IPC Medium Density)
footprint VFQFPN8_L (SON, 8-Leads, Body 3x3mm, Pitch 0.5mm, Thermal Pad 2.35x1.6mm, IPC High Density)
footprint VFQFPN8_M (SON, 8-Leads, Body 3x3mm, Pitch 0.5mm, Thermal Pad 2.35x1.6mm, IPC Low Density)
pins: 1 RUN (in), 2 COMP (out), 3 VFB (in), 4 GND (power), 5 LX (out), 6 VCC (power), 7 SYNC (in), 8 PGOOD (oc), 9 EPAD (power)

## L6928D
designator U?
High efficiency monolithic synchronous step down regulator, 8-Pin MSOP; DatasheetVersion: Apr-2011; PackageVersion: 2011; PackageReference: MSOP8; PackageDescription: 8-Pin Thin Small Outline Package 3 x 3 mm Body ,0.65 mm Pitch; ComponentLink1Description: Manufacturer URL; ComponentLink1URL: http://www.st.com; ComponentLink2Description: Datasheet; ComponentLink2URL: http://www.st.com/internet/com/TECHNICAL_RESOURCES/TECHNICAL_LITERATURE/DATASHEET/CD00047477.pdf
footprint MSOP8_N (TSOP, 8-Leads, Body 3x3mm, Pitch 0.65mm, IPC Medium Density)
footprint MSOP8_L (TSOP, 8-Leads, Body 3x3mm, Pitch 0.65mm, IPC High Density)
footprint MSOP8_M (TSOP, 8-Leads, Body 3x3mm, Pitch 0.65mm, IPC Low Density)
pins: 1 RUN (in), 2 COMP (out), 3 VFB (in), 4 GND (power), 5 LX (out), 6 VCC (power), 7 SYNC (in), 8 PGOOD (oc)

## L6928D013TR
designator U?
High efficiency monolithic synchronous step down regulator, 8-Pin MSOP, Tape and Reel; DatasheetVersion: Apr-2011; PackageVersion: 2011; PackageReference: MSOP8; PackageDescription: 8-Pin Thin Small Outline Package 3 x 3 mm Body ,0.65 mm Pitch; ComponentLink1Description: Manufacturer URL; ComponentLink1URL: http://www.st.com; ComponentLink2Description: Datasheet; ComponentLink2URL: http://www.st.com/internet/com/TECHNICAL_RESOURCES/TECHNICAL_LITERATURE/DATASHEET/CD00047477.pdf
footprint MSOP8_N (TSOP, 8-Leads, Body 3x3mm, Pitch 0.65mm, IPC Medium Density)
footprint MSOP8_L (TSOP, 8-Leads, Body 3x3mm, Pitch 0.65mm, IPC High Density)
footprint MSOP8_M (TSOP, 8-Leads, Body 3x3mm, Pitch 0.65mm, IPC Low Density)
pins: 1 RUN (in), 2 COMP (out), 3 VFB (in), 4 GND (power), 5 LX (out), 6 VCC (power), 7 SYNC (in), 8 PGOOD (oc)

## L6928Q1
designator U?
High efficiency monolithic synchronous step down regulator, 8-Pin VFQFPN; DatasheetVersion: Apr-2011; PackageVersion: 2009; PackageReference: VFQFPN8; PackageDescription: 8-Pin VFQFPN, 3 x 3 x 1.08 mm Body, 0.5 mm Pitch, Exposed Pad; ComponentLink1Description: Manufacturer URL; ComponentLink1URL: http://www.st.com; ComponentLink2Description: Datasheet; ComponentLink2URL: http://www.st.com/internet/com/TECHNICAL_RESOURCES/TECHNICAL_LITERATURE/DATASHEET/CD00047477.pdf
footprint VFQFPN8_N (SON, 8-Leads, Body 3x3mm, Pitch 0.5mm, Thermal Pad 2.35x1.6mm, IPC Medium Density)
footprint VFQFPN8_L (SON, 8-Leads, Body 3x3mm, Pitch 0.5mm, Thermal Pad 2.35x1.6mm, IPC High Density)
footprint VFQFPN8_M (SON, 8-Leads, Body 3x3mm, Pitch 0.5mm, Thermal Pad 2.35x1.6mm, IPC Low Density)
pins: 1 RUN (in), 2 COMP (out), 3 VFB (in), 4 GND (power), 5 LX (out), 6 VCC (power), 7 SYNC (in), 8 PGOOD (oc), 9 EPAD (power)

## L6928Q1TR
designator U?
High efficiency monolithic synchronous step down regulator, 8-Pin VFQFPN, Tape and Reel; DatasheetVersion: Apr-2011; PackageVersion: 2009; PackageReference: VFQFPN8; PackageDescription: 8-Pin VFQFPN, 3 x 3 x 1.08 mm Body, 0.5 mm Pitch, Exposed Pad; ComponentLink1Description: Manufacturer URL; ComponentLink1URL: http://www.st.com; ComponentLink2Description: Datasheet; ComponentLink2URL: http://www.st.com/internet/com/TECHNICAL_RESOURCES/TECHNICAL_LITERATURE/DATASHEET/CD00047477.pdf
footprint VFQFPN8_N (SON, 8-Leads, Body 3x3mm, Pitch 0.5mm, Thermal Pad 2.35x1.6mm, IPC Medium Density)
footprint VFQFPN8_L (SON, 8-Leads, Body 3x3mm, Pitch 0.5mm, Thermal Pad 2.35x1.6mm, IPC High Density)
footprint VFQFPN8_M (SON, 8-Leads, Body 3x3mm, Pitch 0.5mm, Thermal Pad 2.35x1.6mm, IPC Low Density)
pins: 1 RUN (in), 2 COMP (out), 3 VFB (in), 4 GND (power), 5 LX (out), 6 VCC (power), 7 SYNC (in), 8 PGOOD (oc), 9 EPAD (power)

## L6932D1.2
designator U?
2A, High performance ULDO linear regulator, 8-Pin SO; DatasheetVersion: Dec-2005; PackageVersion: Dec-2002; PackageReference: SO8; PackageDescription: 8-Pin Small Outline Integrated Circuit 1.27 mm Pitch; Code_JEDEC: MS-012-AA; Code_IPC: SOIC127P600-8; ComponentLink1Description: Manufacturer URL; ComponentLink1URL: http://www.st.com; ComponentLink2Description: Datasheet; ComponentLink2URL: http://www.st.com/internet/com/TECHNICAL_RESOURCES/TECHNICAL_LITERATURE/DATASHEET/CD00002172.pdf; ComponentLink3Description: Package Specification; ComponentLink3URL: http://www.st.com/internet/com/TECHNICAL_RESOURCES/TECHNICAL_LITERATURE/PACKAGE_INFORMATION/CD00004680.pdf
footprint SO8_N (SOIC, 8-Leads, Body 4.9x3.9mm, Pitch 1.27mm, IPC Medium Density)
footprint SO8_L (SOIC, 8-Leads, Body 4.9x3.9mm, Pitch 1.27mm, IPC High Density)
footprint SO8_M (SOIC, 8-Leads, Body 4.9x3.9mm, Pitch 1.27mm, IPC Low Density)
pins: 1 EN (in), 2 IN (power), 3 ADJ (in), 4 OUT (power), 5 GND (power), 6 GND (power), 7 GND (power), 8 GND (power)

## L6932D1.2TR
designator U?
2A, High performance ULDO linear regulator, 8-Pin SO, Tape and Reel; DatasheetVersion: Dec-2005; PackageVersion: Dec-2002; PackageReference: SO8; PackageDescription: 8-Pin Small Outline Integrated Circuit 1.27 mm Pitch; Code_JEDEC: MS-012-AA; Code_IPC: SOIC127P600-8; ComponentLink1Description: Manufacturer URL; ComponentLink1URL: http://www.st.com; ComponentLink2Description: Datasheet; ComponentLink2URL: http://www.st.com/internet/com/TECHNICAL_RESOURCES/TECHNICAL_LITERATURE/DATASHEET/CD00002172.pdf; ComponentLink3Description: Package Specification; ComponentLink3URL: http://www.st.com/internet/com/TECHNICAL_RESOURCES/TECHNICAL_LITERATURE/PACKAGE_INFORMATION/CD00004680.pdf
footprint SO8_N (SOIC, 8-Leads, Body 4.9x3.9mm, Pitch 1.27mm, IPC Medium Density)
footprint SO8_L (SOIC, 8-Leads, Body 4.9x3.9mm, Pitch 1.27mm, IPC High Density)
footprint SO8_M (SOIC, 8-Leads, Body 4.9x3.9mm, Pitch 1.27mm, IPC Low Density)
pins: 1 EN (in), 2 IN (power), 3 ADJ (in), 4 OUT (power), 5 GND (power), 6 GND (power), 7 GND (power), 8 GND (power)

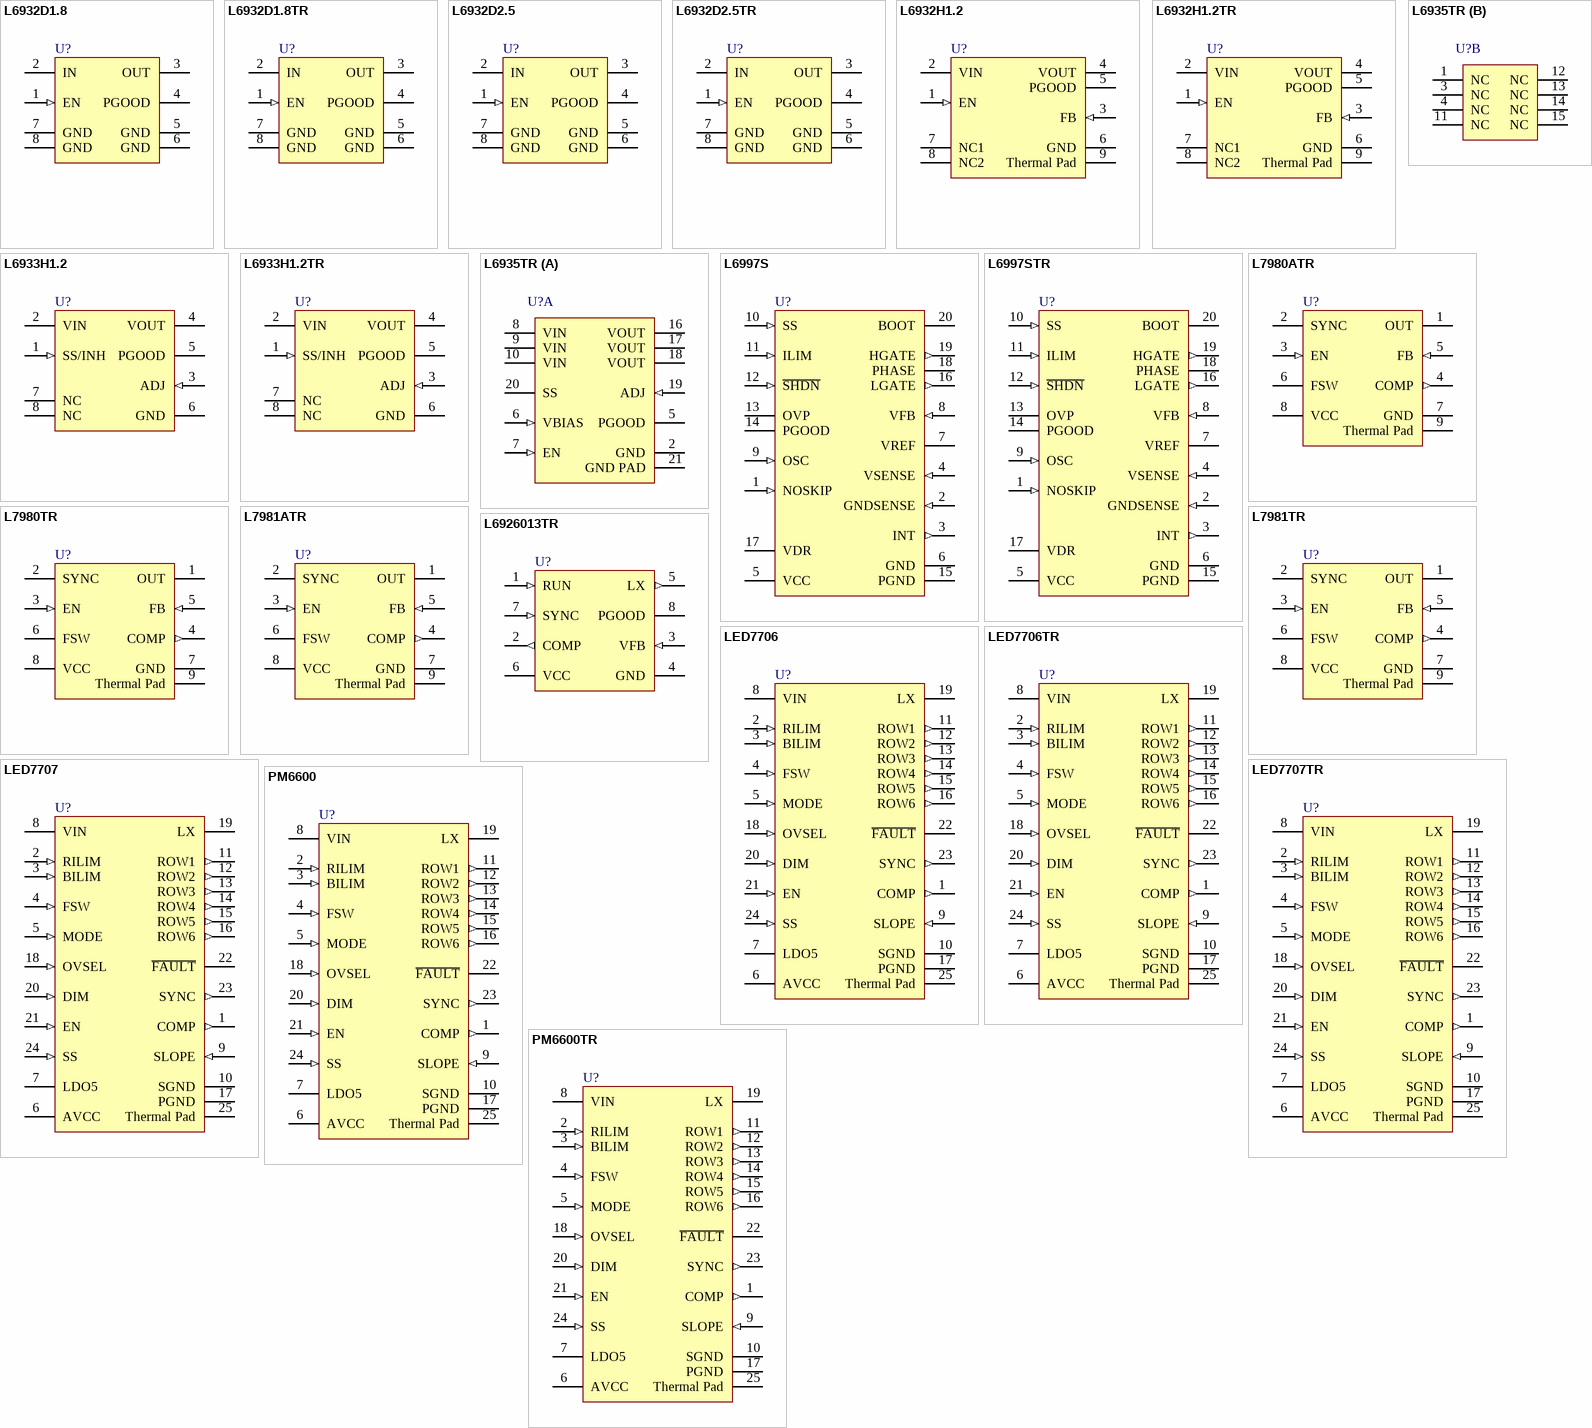
[diagram p5: symbols L6932D1.8 to PM6600TR]

## L6932D1.8
designator U?
2A, High performance ULDO linear regulator, 8-Pin SO; DatasheetVersion: Dec-2005; PackageVersion: Dec-2002; PackageReference: SO8; PackageDescription: 8-Pin Small Outline Integrated Circuit 1.27 mm Pitch; Code_JEDEC: MS-012-AA; Code_IPC: SOIC127P600-8; ComponentLink1Description: Manufacturer URL; ComponentLink1URL: http://www.st.com; ComponentLink2Description: Datasheet; ComponentLink2URL: http://www.st.com/internet/com/TECHNICAL_RESOURCES/TECHNICAL_LITERATURE/DATASHEET/CD00002172.pdf; ComponentLink3Description: Package Specification; ComponentLink3URL: http://www.st.com/internet/com/TECHNICAL_RESOURCES/TECHNICAL_LITERATURE/PACKAGE_INFORMATION/CD00004680.pdf
footprint SO8_N (SOIC, 8-Leads, Body 4.9x3.9mm, Pitch 1.27mm, IPC Medium Density)
footprint SO8_L (SOIC, 8-Leads, Body 4.9x3.9mm, Pitch 1.27mm, IPC High Density)
footprint SO8_M (SOIC, 8-Leads, Body 4.9x3.9mm, Pitch 1.27mm, IPC Low Density)
pins: 1 EN (in), 2 IN (power), 3 OUT (power), 4 PGOOD (oc), 5 GND (power), 6 GND (power), 7 GND (power), 8 GND (power)

## L6932D1.8TR
designator U?
2A, High performance ULDO linear regulator, 8-Pin SO, Tape and Reel; DatasheetVersion: Dec-2005; PackageVersion: Dec-2002; PackageReference: SO8; PackageDescription: 8-Pin Small Outline Integrated Circuit 1.27 mm Pitch; Code_JEDEC: MS-012-AA; Code_IPC: SOIC127P600-8; ComponentLink1Description: Manufacturer URL; ComponentLink1URL: http://www.st.com; ComponentLink2Description: Datasheet; ComponentLink2URL: http://www.st.com/internet/com/TECHNICAL_RESOURCES/TECHNICAL_LITERATURE/DATASHEET/CD00002172.pdf; ComponentLink3Description: Package Specification; ComponentLink3URL: http://www.st.com/internet/com/TECHNICAL_RESOURCES/TECHNICAL_LITERATURE/PACKAGE_INFORMATION/CD00004680.pdf
footprint SO8_N (SOIC, 8-Leads, Body 4.9x3.9mm, Pitch 1.27mm, IPC Medium Density)
footprint SO8_L (SOIC, 8-Leads, Body 4.9x3.9mm, Pitch 1.27mm, IPC High Density)
footprint SO8_M (SOIC, 8-Leads, Body 4.9x3.9mm, Pitch 1.27mm, IPC Low Density)
pins: 1 EN (in), 2 IN (power), 3 OUT (power), 4 PGOOD (oc), 5 GND (power), 6 GND (power), 7 GND (power), 8 GND (power)

## L6932D2.5
designator U?
2A, High performance ULDO linear regulator, 8-Pin SO; DatasheetVersion: Dec-2005; PackageVersion: Dec-2002; PackageReference: SO8; PackageDescription: 8-Pin Small Outline Integrated Circuit 1.27 mm Pitch; Code_JEDEC: MS-012-AA; Code_IPC: SOIC127P600-8; ComponentLink1Description: Manufacturer URL; ComponentLink1URL: http://www.st.com; ComponentLink2Description: Datasheet; ComponentLink2URL: http://www.st.com/internet/com/TECHNICAL_RESOURCES/TECHNICAL_LITERATURE/DATASHEET/CD00002172.pdf; ComponentLink3Description: Package Specification; ComponentLink3URL: http://www.st.com/internet/com/TECHNICAL_RESOURCES/TECHNICAL_LITERATURE/PACKAGE_INFORMATION/CD00004680.pdf
footprint SO8_N (SOIC, 8-Leads, Body 4.9x3.9mm, Pitch 1.27mm, IPC Medium Density)
footprint SO8_L (SOIC, 8-Leads, Body 4.9x3.9mm, Pitch 1.27mm, IPC High Density)
footprint SO8_M (SOIC, 8-Leads, Body 4.9x3.9mm, Pitch 1.27mm, IPC Low Density)
pins: 1 EN (in), 2 IN (power), 3 OUT (power), 4 PGOOD (oc), 5 GND (power), 6 GND (power), 7 GND (power), 8 GND (power)

## L6932D2.5TR
designator U?
2A, High performance ULDO linear regulator, 8-Pin SO, Tape and Reel; DatasheetVersion: Dec-2005; PackageVersion: Dec-2002; PackageReference: SO8; PackageDescription: 8-Pin Small Outline Integrated Circuit 1.27 mm Pitch; Code_JEDEC: MS-012-AA; Code_IPC: SOIC127P600-8; ComponentLink1Description: Manufacturer URL; ComponentLink1URL: http://www.st.com; ComponentLink2Description: Datasheet; ComponentLink2URL: http://www.st.com/internet/com/TECHNICAL_RESOURCES/TECHNICAL_LITERATURE/DATASHEET/CD00002172.pdf; ComponentLink3Description: Package Specification; ComponentLink3URL: http://www.st.com/internet/com/TECHNICAL_RESOURCES/TECHNICAL_LITERATURE/PACKAGE_INFORMATION/CD00004680.pdf
footprint SO8_N (SOIC, 8-Leads, Body 4.9x3.9mm, Pitch 1.27mm, IPC Medium Density)
footprint SO8_L (SOIC, 8-Leads, Body 4.9x3.9mm, Pitch 1.27mm, IPC High Density)
footprint SO8_M (SOIC, 8-Leads, Body 4.9x3.9mm, Pitch 1.27mm, IPC Low Density)
pins: 1 EN (in), 2 IN (power), 3 OUT (power), 4 PGOOD (oc), 5 GND (power), 6 GND (power), 7 GND (power), 8 GND (power)

## L6932H1.2
designator U?
2A, High performance ULDO linear regulator, 8-Pin HSO, Tube; DatasheetVersion: May-2007; PackageVersion: 2007; PackageReference: HSO-8; PackageDescription: 8-Pin Small Outline Integrated Circuit 1.27 mm Pitch; ComponentLink1Description: Manufacturer URL; ComponentLink1URL: http://www.st.com; ComponentLink2Description: Datasheet; ComponentLink2URL: http://www.st.com/internet/com/TECHNICAL_RESOURCES/TECHNICAL_LITERATURE/DATASHEET/CD00114660.pdf
footprint HSO-8_N (SOIC, 8-Leads, Body 4.9x3.9mm, Pitch 1.27mm, Thermal Pad, IPC Medium Density)
footprint HSO-8_L (SOIC, 8-Leads, Body 4.9x3.9mm, Pitch 1.27mm, Thermal Pad, IPC High Density)
footprint HSO-8_M (SOIC, 8-Leads, Body 4.9x3.9mm, Pitch 1.27mm, Thermal Pad, IPC Low Density)
pins: 1 EN (in), 2 VIN (power), 3 FB (in), 4 VOUT (power), 5 PGOOD (oc), 6 GND (power), 7 NC1, 8 NC2, 9 Thermal Pad (power)

## L6932H1.2TR
designator U?
2A, High performance ULDO linear regulator, 8-Pin HSO, Tape and Reel; DatasheetVersion: May-2007; PackageVersion: 2007; PackageReference: HSO-8; PackageDescription: 8-Pin Small Outline Integrated Circuit 1.27 mm Pitch; ComponentLink1Description: Manufacturer URL; ComponentLink1URL: http://www.st.com; ComponentLink2Description: Datasheet; ComponentLink2URL: http://www.st.com/internet/com/TECHNICAL_RESOURCES/TECHNICAL_LITERATURE/DATASHEET/CD00114660.pdf
footprint HSO-8_N (SOIC, 8-Leads, Body 4.9x3.9mm, Pitch 1.27mm, Thermal Pad, IPC Medium Density)
footprint HSO-8_L (SOIC, 8-Leads, Body 4.9x3.9mm, Pitch 1.27mm, Thermal Pad, IPC High Density)
footprint HSO-8_M (SOIC, 8-Leads, Body 4.9x3.9mm, Pitch 1.27mm, Thermal Pad, IPC Low Density)
pins: 1 EN (in), 2 VIN (power), 3 FB (in), 4 VOUT (power), 5 PGOOD (oc), 6 GND (power), 7 NC1, 8 NC2, 9 Thermal Pad (power)

## L6933H1.2
designator U?
High Performance 2A ULDO Linear Regulator with Soft Start, 8-Pin SO; DatasheetVersion: Nov-2007; PackageVersion: Dec-2002; PackageReference: SO8; PackageDescription: 8-Pin Small Outline Integrated Circuit 1.27 mm Pitch; Code_JEDEC: MS-012-AA; Code_IPC: SOIC127P600-8; ComponentLink1Description: Manufacturer URL; ComponentLink1URL: http://www.st.com; ComponentLink2Description: Datasheet; ComponentLink2URL: http://www.st.com/internet/com/TECHNICAL_RESOURCES/TECHNICAL_LITERATURE/DATASHEET/CD00148469.pdf; ComponentLink3Description: Package Specification; ComponentLink3URL: http://www.st.com/internet/com/TECHNICAL_RESOURCES/TECHNICAL_LITERATURE/PACKAGE_INFORMATION/CD00004680.pdf
footprint SO8_N (SOIC, 8-Leads, Body 4.9x3.9mm, Pitch 1.27mm, IPC Medium Density)
footprint SO8_L (SOIC, 8-Leads, Body 4.9x3.9mm, Pitch 1.27mm, IPC High Density)
footprint SO8_M (SOIC, 8-Leads, Body 4.9x3.9mm, Pitch 1.27mm, IPC Low Density)
pins: 1 SS/INH (in), 2 VIN (power), 3 ADJ (in), 4 VOUT (power), 5 PGOOD (oc), 6 GND (power), 7 NC, 8 NC

## L6933H1.2TR
designator U?
High Performance 2A ULDO Linear Regulator with Soft Start, 8-Pin SO, Tape and Reel; DatasheetVersion: Nov-2007; PackageVersion: Dec-2002; PackageReference: SO8; PackageDescription: 8-Pin Small Outline Integrated Circuit 1.27 mm Pitch; Code_JEDEC: MS-012-AA; Code_IPC: SOIC127P600-8; ComponentLink1Description: Manufacturer URL; ComponentLink1URL: http://www.st.com; ComponentLink2Description: Datasheet; ComponentLink2URL: http://www.st.com/internet/com/TECHNICAL_RESOURCES/TECHNICAL_LITERATURE/DATASHEET/CD00148469.pdf; ComponentLink3Description: Package Specification; ComponentLink3URL: http://www.st.com/internet/com/TECHNICAL_RESOURCES/TECHNICAL_LITERATURE/PACKAGE_INFORMATION/CD00004680.pdf
footprint SO8_N (SOIC, 8-Leads, Body 4.9x3.9mm, Pitch 1.27mm, IPC Medium Density)
footprint SO8_L (SOIC, 8-Leads, Body 4.9x3.9mm, Pitch 1.27mm, IPC High Density)
footprint SO8_M (SOIC, 8-Leads, Body 4.9x3.9mm, Pitch 1.27mm, IPC Low Density)
pins: 1 SS/INH (in), 2 VIN (power), 3 ADJ (in), 4 VOUT (power), 5 PGOOD (oc), 6 GND (power), 7 NC, 8 NC

## L6935TR
designator U?
High performance 3A ULDO Linear regulator, 20-Pin VFQFPN, Tape and Reel; DatasheetVersion: May-2008; PackageVersion: 2008; PackageReference: VFQFPN20; PackageDescription: 20-Pin Very Fine Quad Flat Package No-Lead, 4 x 4 x 1 mm Body, 0.5 mm Pitch, Exposed Pad; ComponentLink1Description: Manufacturer URL; ComponentLink1URL: http://www.st.com; ComponentLink2Description: Datasheet; ComponentLink2URL: http://www.st.com/internet/com/TECHNICAL_RESOURCES/TECHNICAL_LITERATURE/DATASHEET/CD00197209.pdf
footprint VFQFPN20_N (QFN, 20-Leads, Body 4x4mm, Pitch 0.5mm, Thermal Pad 2.8x2.8mm, IPC Medium Density)
footprint VFQFPN20_L (QFN, 20-Leads, Body 4x4mm, Pitch 0.5mm, Thermal Pad 2.8x2.8mm, IPC High Density)
footprint VFQFPN20_M (QFN, 20-Leads, Body 4x4mm, Pitch 0.5mm, Thermal Pad 2.8x2.8mm, IPC Low Density)
part A pins: 2 GND (power), 5 PGOOD (oc), 6 VBIAS (in), 7 EN (in), 8 VIN (power), 9 VIN (power), 10 VIN (power), 16 VOUT (power), 17 VOUT (power), 18 VOUT (power), 19 ADJ (in), 20 SS, 21 GND PAD (power)
part B pins: 1 NC, 3 NC, 4 NC, 11 NC, 12 NC, 13 NC, 14 NC, 15 NC

## L6997S
designator U?
Step Down Controller for Low Voltage Operations, 20-Pin TSSOP; DatasheetVersion: Jun-2004; PackageVersion: 2010; PackageReference: TSSOP20; PackageDescription: 20-Pin Thin Shrink Small Package Outline 0.65 mm Pitch; Code_JEDEC: MO-153-AC; ComponentLink1Description: Manufacturer URL; ComponentLink1URL: http://www.st.com; ComponentLink2Description: Datasheet; ComponentLink2URL: http://www.st.com/internet/com/TECHNICAL_RESOURCES/TECHNICAL_LITERATURE/DATASHEET/CD00025252.pdf
footprint TSSOP20_N (TSOP, 20-Leads, Body 6.5x4.4mm, Pitch 0.65mm, IPC Medium Density)
footprint TSSOP20_L (TSOP, 20-Leads, Body 6.5x4.4mm, Pitch 0.65mm, IPC High Density)
footprint TSSOP20_M (TSOP, 20-Leads, Body 6.5x4.4mm, Pitch 0.65mm, IPC Low Density)
pins: 1 NOSKIP (in), 2 GNDSENSE (in), 3 INT (out), 4 VSENSE (in), 5 VCC (power), 6 GND (power), 7 VREF (power), 8 VFB (in), 9 OSC (in), 10 SS (in), 11 ILIM (in), 12 ~{SHDN} (in), 13 OVP (oc), 14 PGOOD (oc), 15 PGND (power), 16 LGATE (out), 17 VDR (power), 18 PHASE, 19 HGATE (out), 20 BOOT

## L6997STR
designator U?
Step Down Controller for Low Voltage Operations, 20-Pin TSSOP, Tape and Reel; DatasheetVersion: Jun-2004; PackageVersion: 2010; PackageReference: TSSOP20; PackageDescription: 20-Pin Thin Shrink Small Package Outline 0.65 mm Pitch; Code_JEDEC: MO-153-AC; ComponentLink1Description: Manufacturer URL; ComponentLink1URL: http://www.st.com; ComponentLink2Description: Datasheet; ComponentLink2URL: http://www.st.com/internet/com/TECHNICAL_RESOURCES/TECHNICAL_LITERATURE/DATASHEET/CD00025252.pdf
footprint TSSOP20_N (TSOP, 20-Leads, Body 6.5x4.4mm, Pitch 0.65mm, IPC Medium Density)
footprint TSSOP20_L (TSOP, 20-Leads, Body 6.5x4.4mm, Pitch 0.65mm, IPC High Density)
footprint TSSOP20_M (TSOP, 20-Leads, Body 6.5x4.4mm, Pitch 0.65mm, IPC Low Density)
pins: 1 NOSKIP (in), 2 GNDSENSE (in), 3 INT (out), 4 VSENSE (in), 5 VCC (power), 6 GND (power), 7 VREF (power), 8 VFB (in), 9 OSC (in), 10 SS (in), 11 ILIM (in), 12 ~{SHDN} (in), 13 OVP (oc), 14 PGOOD (oc), 15 PGND (power), 16 LGATE (out), 17 VDR (power), 18 PHASE, 19 HGATE (out), 20 BOOT

## L7980ATR
designator U?
2 A step-down switching regulator, 8-Pin HSOP, Tape and Reel; DatasheetVersion: Dec-2010; PackageVersion: 2010; PackageReference: HSOP8-D1; PackageDescription: 8-Pin Small Outline Integrated Circuit 1.27 mm Pitch; ComponentLink1Description: Manufacturer URL; ComponentLink1URL: http://www.st.com; ComponentLink2Description: Datasheet; ComponentLink2URL: http://www.st.com/internet/com/TECHNICAL_RESOURCES/TECHNICAL_LITERATURE/DATASHEET/CD00217462.pdf
footprint HSOP8-D1_N (SOIC, 8-Leads, Body 4.9x3.9mm, Pitch 1.27mm, Thermal Pad, IPC Medium Density)
footprint HSOP8-D1_L (SOIC, 8-Leads, Body 4.9x3.9mm, Pitch 1.27mm, Thermal Pad, IPC High Density)
footprint HSOP8-D1_M (SOIC, 8-Leads, Body 4.9x3.9mm, Pitch 1.27mm, Thermal Pad, IPC Low Density)
pins: 1 OUT (power), 2 SYNC, 3 EN (in), 4 COMP (out), 5 FB (in), 6 FSW, 7 GND (power), 8 VCC (power), 9 Thermal Pad (power)

## L7980TR
designator U?
2 A step-down switching regulator, 8-Pin VFQFPN, Tape and Reel; DatasheetVersion: Dec-2010; PackageVersion: 2009; PackageReference: VFQFPN8; PackageDescription: 8-Pin VFQFPN, 3 x 3 x 1.08 mm Body, 0.5 mm Pitch, Exposed Pad; ComponentLink1Description: Manufacturer URL; ComponentLink1URL: http://www.st.com; ComponentLink2Description: Datasheet; ComponentLink2URL: http://www.st.com/internet/com/TECHNICAL_RESOURCES/TECHNICAL_LITERATURE/DATASHEET/CD00217462.pdf
footprint VFQFPN8_N (SON, 8-Leads, Body 3x3mm, Pitch 0.5mm, Thermal Pad 2.35x1.6mm, IPC Medium Density)
footprint VFQFPN8_L (SON, 8-Leads, Body 3x3mm, Pitch 0.5mm, Thermal Pad 2.35x1.6mm, IPC High Density)
footprint VFQFPN8_M (SON, 8-Leads, Body 3x3mm, Pitch 0.5mm, Thermal Pad 2.35x1.6mm, IPC Low Density)
pins: 1 OUT (power), 2 SYNC, 3 EN (in), 4 COMP (out), 5 FB (in), 6 FSW, 7 GND (power), 8 VCC (power), 9 Thermal Pad (power)

## L7981ATR
designator U?
3 A step-down switching regulator, 8-Pin HSOP, Tape and Reel; DatasheetVersion: Jul-2010; PackageVersion: 2010; PackageReference: HSOP8-D1; PackageDescription: 8-Pin Small Outline Integrated Circuit 1.27 mm Pitch; ComponentLink1Description: Manufacturer URL; ComponentLink1URL: http://www.st.com; ComponentLink2Description: Datasheet; ComponentLink2URL: http://www.st.com/internet/com/TECHNICAL_RESOURCES/TECHNICAL_LITERATURE/DATASHEET/CD00217474.pdf
footprint HSOP8-D1_N (SOIC, 8-Leads, Body 4.9x3.9mm, Pitch 1.27mm, Thermal Pad, IPC Medium Density)
footprint HSOP8-D1_L (SOIC, 8-Leads, Body 4.9x3.9mm, Pitch 1.27mm, Thermal Pad, IPC High Density)
footprint HSOP8-D1_M (SOIC, 8-Leads, Body 4.9x3.9mm, Pitch 1.27mm, Thermal Pad, IPC Low Density)
pins: 1 OUT (power), 2 SYNC, 3 EN (in), 4 COMP (out), 5 FB (in), 6 FSW, 7 GND (power), 8 VCC (power), 9 Thermal Pad (power)

## L7981TR
designator U?
3 A step-down switching regulator, 8-Pin VFQFPN, Tape and Reel; DatasheetVersion: Jul-2010; PackageVersion: 2009; PackageReference: VFQFPN8; PackageDescription: 8-Pin VFQFPN, 3 x 3 x 1.08 mm Body, 0.5 mm Pitch, Exposed Pad; ComponentLink1Description: Manufacturer URL; ComponentLink1URL: http://www.st.com; ComponentLink2Description: Datasheet; ComponentLink2URL: http://www.st.com/internet/com/TECHNICAL_RESOURCES/TECHNICAL_LITERATURE/DATASHEET/CD00217474.pdf
footprint VFQFPN8_N (SON, 8-Leads, Body 3x3mm, Pitch 0.5mm, Thermal Pad 2.35x1.6mm, IPC Medium Density)
footprint VFQFPN8_L (SON, 8-Leads, Body 3x3mm, Pitch 0.5mm, Thermal Pad 2.35x1.6mm, IPC High Density)
footprint VFQFPN8_M (SON, 8-Leads, Body 3x3mm, Pitch 0.5mm, Thermal Pad 2.35x1.6mm, IPC Low Density)
pins: 1 OUT (power), 2 SYNC, 3 EN (in), 4 COMP (out), 5 FB (in), 6 FSW, 7 GND (power), 8 VCC (power), 9 Thermal Pad (power)

## L6926013TR
designator U?
High-efficiency monolithic synchronous step-down regulator, 8-Pin MSOP, Tape and Reel; DatasheetVersion: Apr-2011; PackageVersion: 2011; PackageReference: MSOP8; PackageDescription: 8-Pin Thin Small Outline Package 3 x 3 mm Body ,0.65 mm Pitch; ComponentLink1Description: Manufacturer URL; ComponentLink1URL: http://www.st.com; ComponentLink2Description: Datasheet; ComponentLink2URL: http://www.st.com/internet/com/TECHNICAL_RESOURCES/TECHNICAL_LITERATURE/DATASHEET/CD00003237.pdf
footprint MSOP8_N (TSOP, 8-Leads, Body 3x3mm, Pitch 0.65mm, IPC Medium Density)
footprint MSOP8_L (TSOP, 8-Leads, Body 3x3mm, Pitch 0.65mm, IPC High Density)
footprint MSOP8_M (TSOP, 8-Leads, Body 3x3mm, Pitch 0.65mm, IPC Low Density)
pins: 1 RUN (in), 2 COMP (out), 3 VFB (in), 4 GND (power), 5 LX (out), 6 VCC (power), 7 SYNC (in), 8 PGOOD (oc)

## LED7706
designator U?
6-rows 30 mA LEDs driver with boost regulator for LCD panel backlight, 24-Pin QFN, Tube; DatasheetVersion: Apr-2009; PackageVersion: 2010; PackageReference: VFQFPN-24; PackageDescription: 24-Pin Quad Flat No-Lead, 4 x 4 mm Body, 0.5 mm Pitch, Exposed Pad; ComponentLink1Description: Manufacturer URL; ComponentLink1URL: http://www.st.com; ComponentLink2Description: Datasheet; ComponentLink2URL: http://www.st.com/internet/com/TECHNICAL_RESOURCES/TECHNICAL_LITERATURE/DATASHEET/CD00184006.pdf
footprint VFQFPN-24_N (QFN, 24-Leads, Body 4x4mm, Pitch 0.5mm, Thermal Pad 2.5x2.5mm, IPC Medium Density)
footprint VFQFPN-24_L (QFN, 24-Leads, Body 4x4mm, Pitch 0.5mm, Thermal Pad 2.5x2.5mm, IPC High Density)
footprint VFQFPN-24_M (QFN, 24-Leads, Body 4x4mm, Pitch 0.5mm, Thermal Pad 2.5x2.5mm, IPC Low Density)
pins: 1 COMP (out), 2 RILIM (in), 3 BILIM (in), 4 FSW (in), 5 MODE (in), 6 AVCC (power), 7 LDO5 (power), 8 VIN (power), 9 SLOPE (in), 10 SGND (power), 11 ROW1 (out), 12 ROW2 (out), 13 ROW3 (out), 14 ROW4 (out), 15 ROW5 (out), 16 ROW6 (out), 17 PGND (power), 18 OVSEL (in), 19 LX (oc), 20 DIM (in), 21 EN (in), 22 ~{FAULT} (oc), 23 SYNC (out), 24 SS (in), 25 Thermal Pad (power)

## LED7706TR
designator U?
6-rows 30 mA LEDs driver with boost regulator for LCD panel backlight, 24-Pin QFN, Tape and Reel; DatasheetVersion: Apr-2009; PackageVersion: 2010; PackageReference: VFQFPN-24; PackageDescription: 24-Pin Quad Flat No-Lead, 4 x 4 mm Body, 0.5 mm Pitch, Exposed Pad; ComponentLink1Description: Manufacturer URL; ComponentLink1URL: http://www.st.com; ComponentLink2Description: Datasheet; ComponentLink2URL: http://www.st.com/internet/com/TECHNICAL_RESOURCES/TECHNICAL_LITERATURE/DATASHEET/CD00184006.pdf
footprint VFQFPN-24_N (QFN, 24-Leads, Body 4x4mm, Pitch 0.5mm, Thermal Pad 2.5x2.5mm, IPC Medium Density)
footprint VFQFPN-24_L (QFN, 24-Leads, Body 4x4mm, Pitch 0.5mm, Thermal Pad 2.5x2.5mm, IPC High Density)
footprint VFQFPN-24_M (QFN, 24-Leads, Body 4x4mm, Pitch 0.5mm, Thermal Pad 2.5x2.5mm, IPC Low Density)
pins: 1 COMP (out), 2 RILIM (in), 3 BILIM (in), 4 FSW (in), 5 MODE (in), 6 AVCC (power), 7 LDO5 (power), 8 VIN (power), 9 SLOPE (in), 10 SGND (power), 11 ROW1 (out), 12 ROW2 (out), 13 ROW3 (out), 14 ROW4 (out), 15 ROW5 (out), 16 ROW6 (out), 17 PGND (power), 18 OVSEL (in), 19 LX (oc), 20 DIM (in), 21 EN (in), 22 ~{FAULT} (oc), 23 SYNC (out), 24 SS (in), 25 Thermal Pad (power)

## LED7707
designator U?
6-rows 85 mA LEDs driver with boost regulator for LCD panel backlight, 24-Pin QFN, Tube; DatasheetVersion: Apr-2009; PackageVersion: 2010; PackageReference: VFQFPN-24; PackageDescription: 24-Pin Quad Flat No-Lead, 4 x 4 mm Body, 0.5 mm Pitch, Exposed Pad; ComponentLink1Description: Manufacturer URL; ComponentLink1URL: http://www.st.com; ComponentLink2Description: Datasheet; ComponentLink2URL: http://www.st.com/internet/com/TECHNICAL_RESOURCES/TECHNICAL_LITERATURE/DATASHEET/CD00185352.pdf
footprint VFQFPN-24_N (QFN, 24-Leads, Body 4x4mm, Pitch 0.5mm, Thermal Pad 2.5x2.5mm, IPC Medium Density)
footprint VFQFPN-24_L (QFN, 24-Leads, Body 4x4mm, Pitch 0.5mm, Thermal Pad 2.5x2.5mm, IPC High Density)
footprint VFQFPN-24_M (QFN, 24-Leads, Body 4x4mm, Pitch 0.5mm, Thermal Pad 2.5x2.5mm, IPC Low Density)
pins: 1 COMP (out), 2 RILIM (in), 3 BILIM (in), 4 FSW (in), 5 MODE (in), 6 AVCC (power), 7 LDO5 (power), 8 VIN (power), 9 SLOPE (in), 10 SGND (power), 11 ROW1 (out), 12 ROW2 (out), 13 ROW3 (out), 14 ROW4 (out), 15 ROW5 (out), 16 ROW6 (out), 17 PGND (power), 18 OVSEL (in), 19 LX (oc), 20 DIM (in), 21 EN (in), 22 ~{FAULT} (oc), 23 SYNC (out), 24 SS (in), 25 Thermal Pad (power)